# EAGLE library part 22V10L-5 (library pld-intel)
PLD
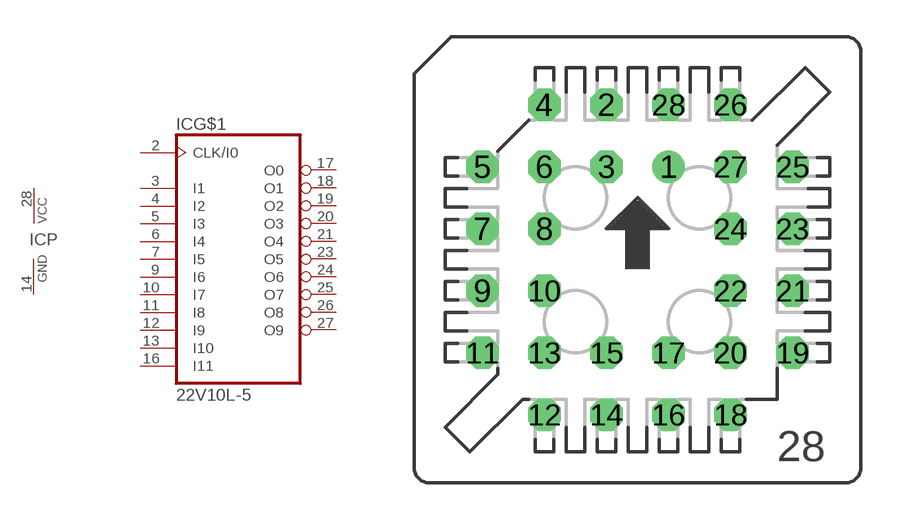
[diagram p3: symbol with the pads of S28; footprint S28]

Designator prefix IC; gates G$1=22V10L-5 P=PWRN

## 22V10L-5 (OC_FARNELL: unknown; OC_NEWARK: unknown)  [S28]
2  G$1:CLK/I0  in
3  G$1:I1  in
4  G$1:I2  in
5  G$1:I3  in
6  G$1:I4  in
7  G$1:I5  in
9  G$1:I6  in
10  G$1:I7  in
11  G$1:I8  in
12  G$1:I9  in
13  G$1:I10  in
14  P:GND  pwr
16  G$1:I11  in
17  G$1:O0
18  G$1:O1
19  G$1:O2
20  G$1:O3
21  G$1:O4
23  G$1:O5
24  G$1:O6
25  G$1:O7
26  G$1:O8
27  G$1:O9
28  P:VCC  pwr

## Footprint S28 (pad centres in mm)
PLCC SOCKET
drill 0.813: 1 1.27,3.81
drill 0.813 octagon: 2 -1.27,6.35; 3 -1.27,3.81; 4 -3.81,6.35; 5 -6.35,3.81; 6 -3.81,3.81; 7 -6.35,1.27; 8 -3.81,1.27; 9 -6.35,-1.27; 10 -3.81,-1.27; 11 -6.35,-3.81; 12 -3.81,-6.35; 13 -3.81,-3.81; 14 -1.27,-6.35; 15 -1.27,-3.81; 16 1.27,-6.35; 17 1.27,-3.81; 18 3.81,-6.35; 19 6.35,-3.81; 20 3.81,-3.81; 21 6.35,-1.27; 22 3.81,-1.27; 23 6.35,1.27; 24 3.81,1.27; 25 6.35,3.81; 26 3.81,6.35; 27 3.81,3.81; 28 1.27,6.35